# Altium footprint library Resistors.PcbLib: 10 footprints
Each footprint in its own frame and in the unit in brackets; x right, y up, seen from the top. Pads: shape width x height; smd on the part's side, far side on the other; paste and mask are expansions set on the pad; w line width, h text height; cw(c..) or ccw(c..) is an arc to the next point about the centre after c.
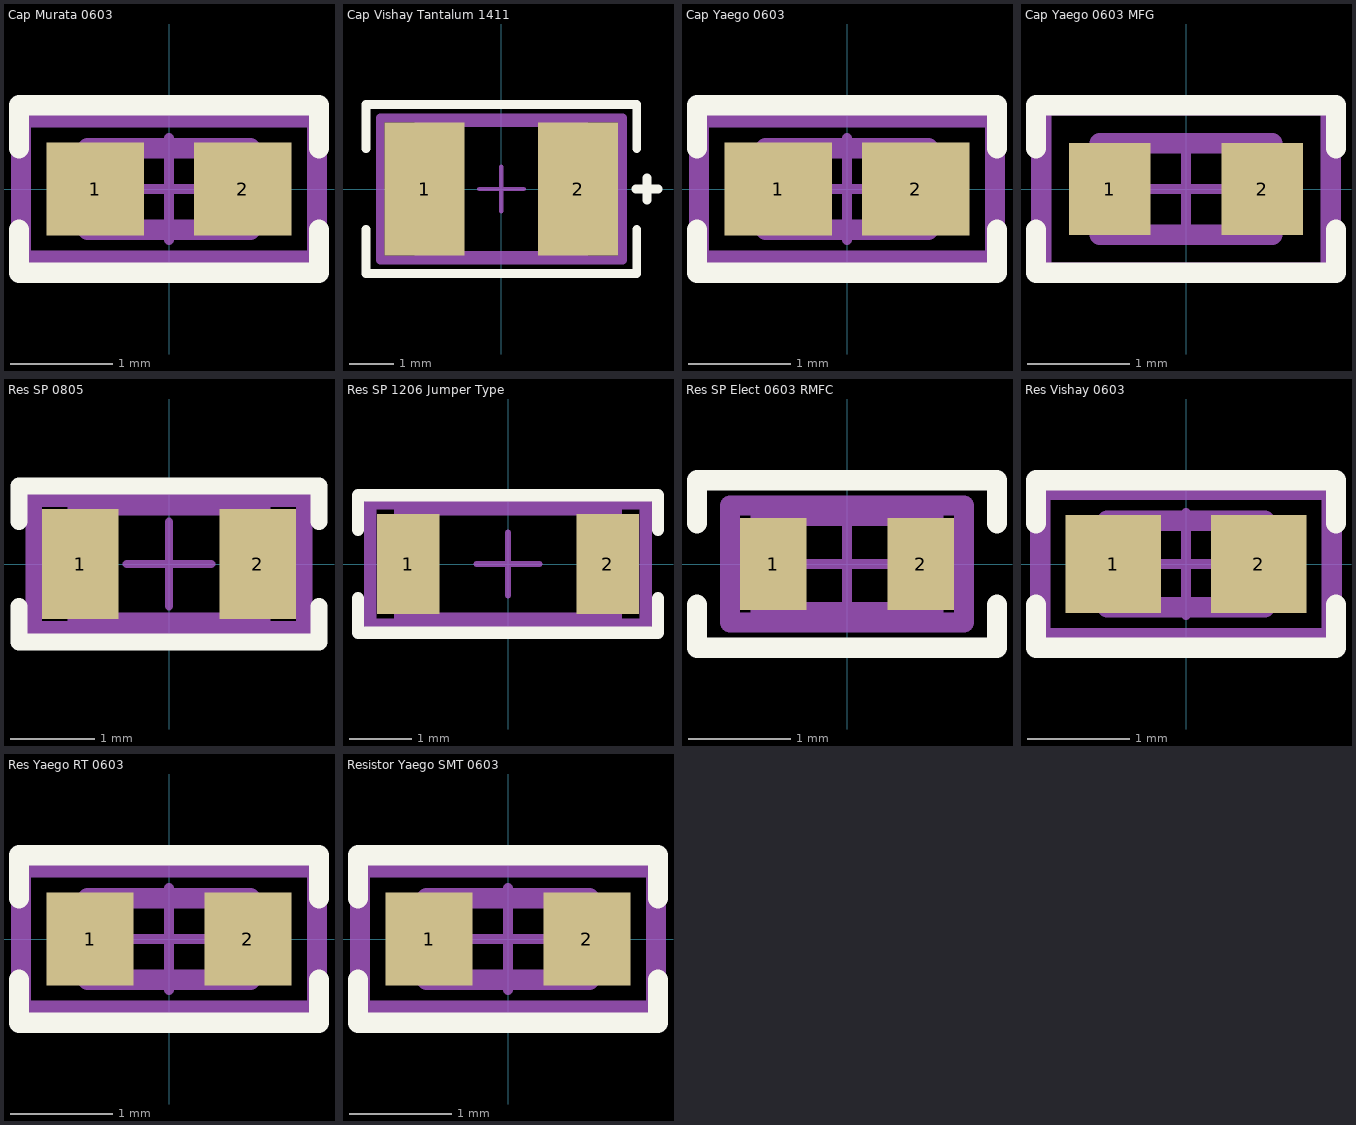
[diagram p0: the footprints below, top view; thin cyan lines are the x and y axes]

## Cap Murata 0603 [mm] "Capacitor Murata Electronics 0603"
pads (2):
  rect 0.959x0.912 smd paste+0 mask+0: 1(-0.727,0) 2(0.727,0)
Top Overlay:
  lines w0.2: -1.475,-0.4 -1.475,-0.825 1.475,-0.825 1.475,-0.4 ; -1.475,0.4 -1.475,0.825 1.475,0.825 1.475,0.4
Bottom Assembly:
  lines w0.2: -1.456,-0.706 -1.456,0.706 1.456,0.706 1.456,-0.706 -1.456,-0.706
Top Courtyard:
  lines w0.2: -1.456,-0.706 1.456,-0.706 1.456,0.706 -1.456,0.706 -1.456,-0.706
Board:
  lines w0.2: -0.8,-0.4 0.8,-0.4 0.8,0.4 -0.8,0.4 -0.8,-0.4
Top Component Center:
  lines w0.1: -0.5,0 0.5,0 ; 0,-0.5 0,0.5
3D body "Cap_Murata_GRM188R61E225KA12D_eec.STEP": height 0.25, standoff 0, extent -1.456,-0.706 1.456,0.706

## Cap Vishay Tantalum 1411 [mm] "10 µF Molded Tantalum Capacitors 16 V 1411 (3528 Metric) 2Ohm"
pads (2):
  rect 1.8x3 smd paste+0 mask+0: 1(-1.725,0) 2(1.725,0)
Top Overlay:
  lines w0.2: -3.048,-0.905 -3.048,-1.905 3.048,-1.905 3.048,-0.905 ; -3.048,0.905 -3.048,1.905 3.048,1.905 3.048,0.905 ; 3.025,0 3.525,0 ; 3.275,-0.25 3.275,0.25
Bottom Assembly:
  lines w0.2: -2.725,-1.6 2.725,-1.6 2.725,1.6 -2.725,1.6 -2.725,-1.6
Top Courtyard:
  lines w0.2: -2.725,-1.6 2.725,-1.6 2.725,1.6 -2.725,1.6 -2.725,-1.6
Top 3D Body:
  lines w0.2: -1.85,-1.5 1.85,-1.5 1.85,1.5 -1.85,1.5 -1.85,-1.5
Top Component Center:
  lines w0.1: -0.5,0 0.5,0 ; 0,-0.5 0,0.5
3D body "Cap_Vishay_293D106X9016B2TE3_eec.STEP": height 0.25, standoff 0, extent -2.725,-1.6 2.725,1.6

## Cap Yaego 0603 [mm] "Capacitor Yaego 0603"
pads (2):
  rect 1.058x0.912 smd paste+0 mask+0: 1(-0.677,0) 2(0.677,0)
Top Overlay:
  lines w0.2: -1.475,-0.4 -1.475,-0.825 1.475,-0.825 1.475,-0.4 ; -1.475,0.4 -1.475,0.825 1.475,0.825 1.475,0.4
Bottom Assembly:
  lines w0.2: -1.456,-0.706 1.456,-0.706 1.456,0.706 -1.456,0.706 -1.456,-0.706
Top Courtyard:
  lines w0.2: -1.456,-0.706 1.456,-0.706 1.456,0.706 -1.456,0.706 -1.456,-0.706
Board:
  lines w0.2: -0.8,-0.4 0.8,-0.4 0.8,0.4 -0.8,0.4 -0.8,-0.4
Top Component Center:
  lines w0.1: -0.5,0 0.5,0 -0.5,0 ; 0,-0.5 0,0.5 0,-0.5
3D body "Cap_Yageo_CC0603JRNPO9BN200_eec.STEP": height 0.25, standoff 0, extent -1.456,-0.706 1.456,0.706

## Cap Yaego 0603 MFG [mm] "Capacitor Yaego MFG Type 0603"
pads (2):
  rect 0.8x0.9 smd paste+0 mask+0: 1(-0.75,0) 2(0.75,0)
Top Overlay:
  lines w0.2: -1.475,-0.4 -1.475,-0.825 1.475,-0.825 1.475,-0.4 ; -1.475,0.4 -1.475,0.825 1.475,0.825 1.475,0.4
Top Assembly:
  lines w0.2: -1.425,-0.825 1.425,-0.825 1.425,0.825 -1.425,0.825 -1.425,-0.825 ; -0.85,-0.45 0.85,-0.45 0.85,0.45 -0.85,0.45 -0.85,-0.45
Top Courtyard:
  lines w0.2: -1.425,-0.825 1.425,-0.825 1.425,0.825 -1.425,0.825 -1.425,-0.825
Top Component Center:
  lines w0.1: -0.5,0 0.5,0 ; 0,-0.5 0,0.5
3D body "Cap_YAGEO_CC0603JRNPO9BN150_eec.STEP": height 0.25, standoff 0, extent -1.425,-0.825 1.425,0.825

## Res SP 0805 [mm] "Resistor Stackpole Electronics 0805 Jumper Type"
pads (2):
  rect 0.9x1.3 smd paste+0 mask+0: 1(-1.05,0) 2(1.05,0)
Top Overlay:
  lines w0.2: -1.775,-0.5 -1.775,-0.925 1.775,-0.925 1.775,-0.5 ; -1.775,0.5 -1.775,0.925 1.775,0.925 1.775,0.5
Bottom Assembly:
  lines w0.2: -1.6,-0.775 1.6,-0.775 1.6,0.775 -1.6,0.775 -1.6,-0.775
Top Courtyard:
  lines w0.2: -1.6,-0.775 1.6,-0.775 1.6,0.775 -1.6,0.775 -1.6,-0.775
Board:
  lines w0.2: -1.1,-0.675 1.1,-0.675 1.1,0.675 -1.1,0.675 -1.1,-0.675
Top Component Center:
  lines w0.1: -0.5,0 0.5,0 ; 0,-0.5 0,0.5
3D body "Res_Stackpole_Electronics_RMCF0805ZT0R00_eec.STEP": height 0.25, standoff 0, extent -1.6,-0.775 1.6,0.775

## Res SP 1206 Jumper Type [mm] "Resistor Stackpole Electronics 1206"
pads (2):
  rect 1x1.6 smd paste+0 mask+0: 1(-1.6,0) 2(1.6,0)
Top Overlay:
  lines w0.2: -2.4,-0.55 -2.4,-1.1 2.4,-1.1 2.4,-0.55 ; -2.4,0.55 -2.4,1.1 2.4,1.1 2.4,0.55
Bottom Assembly:
  lines w0.2: -2.2,-0.975 2.2,-0.975 2.2,0.975 -2.2,0.975 -2.2,-0.975
Top Courtyard:
  lines w0.2: -2.2,-0.975 2.2,-0.975 2.2,0.975 -2.2,0.975 -2.2,-0.975
Board:
  lines w0.2: -1.725,-0.875 1.725,-0.875 1.725,0.875 -1.725,0.875 -1.725,-0.875
Top Component Center:
  lines w0.1: -0.5,0 0.5,0 ; 0,-0.5 0,0.5
3D body "Res_Stackpole_Electronics_RMCF1206JT1K00_eec.STEP": height 0.25, standoff 0, extent -2.2,-0.975 2.2,0.975

## Res SP Elect 0603 RMFC [mm] "Resistor 0603 (1608 Metric) Automotive AEC-Q200 Thick Film"
pads (2):
  rect 0.65x0.9 smd paste+0 mask+0: 1(-0.725,0) 2(0.725,0)
Top Overlay:
  lines w0.2: -1.475,-0.4 -1.475,-0.825 1.475,-0.825 1.475,-0.4 ; -1.475,0.4 -1.475,0.825 1.475,0.825 1.475,0.4
Bottom Assembly:
  lines w0.2: -1.15,-0.575 -1.15,0.575 1.15,0.575 1.15,-0.575 -1.15,-0.575
Top Courtyard:
  lines w0.2: -1.15,-0.575 -1.15,0.575 1.15,0.575 1.15,-0.575 -1.15,-0.575
Board:
  lines w0.2: -0.85,-0.475 -0.85,0.475 0.85,0.475 0.85,-0.475 -0.85,-0.475
Top Component Center:
  lines w0.1: -0.5,0 0.5,0 ; 0,-0.5 0,0.5
3D body "Res_Stackpole_RMCF0603ZT0R00_eec.STEP": height 0.25, standoff 0, extent -1.15,-0.575 1.15,0.575

## Res Vishay 0603 [mm] "Resistor Vishay 0603"
pads (2):
  rect 0.935x0.962 smd paste+0 mask+0: 1(-0.715,0) 2(0.715,0)
Top Overlay:
  lines w0.2: -1.475,-0.4 -1.475,-0.825 1.475,-0.825 1.475,-0.4 ; -1.475,0.4 -1.475,0.825 1.475,0.825 1.475,0.4
Bottom Assembly:
  lines w0.2: -1.433,-0.731 1.433,-0.731 1.433,0.731 -1.433,0.731 -1.433,-0.731
Top Courtyard:
  lines w0.2: -1.433,-0.731 1.433,-0.731 1.433,0.731 -1.433,0.731 -1.433,-0.731
Board:
  lines w0.2: -0.775,-0.425 0.775,-0.425 0.775,0.425 -0.775,0.425 -0.775,-0.425
Top Component Center:
  lines w0.1: -0.5,0 0.5,0 ; 0,-0.5 0,0.5
3D body "Res_Vishay_CRCW06033M90FKEC_eec.STEP": height 0.25, standoff 0, extent -1.433,-0.731 1.433,0.731

## Res Yaego RT 0603 [mm] "Resistor Yaego RT Serie 0603"
pads (2):
  rect 0.859x0.912 smd paste+0 mask+0: 1(-0.777,0) 2(0.777,0)
Top Overlay:
  lines w0.2: -1.475,-0.4 -1.475,-0.825 1.475,-0.825 1.475,-0.4 ; -1.475,0.4 -1.475,0.825 1.475,0.825 1.475,0.4
Bottom Assembly:
  lines w0.2: -1.456,-0.706 1.456,-0.706 1.456,0.706 -1.456,0.706 -1.456,-0.706
Top Courtyard:
  lines w0.2: -1.456,-0.706 1.456,-0.706 1.456,0.706 -1.456,0.706 -1.456,-0.706
Board:
  lines w0.2: -0.8,-0.4 0.8,-0.4 0.8,0.4 -0.8,0.4 -0.8,-0.4
Top Component Center:
  lines w0.1: -0.5,0 0.5,0 ; 0,-0.5 0,0.5
3D body "Res_Yageo_RT0603CRE0724K3L_eec.STEP": height 0.25, standoff 0, extent -1.456,-0.706 1.456,0.706

## Resistor Yaego SMT 0603 [mm] "Resistor Yaego SMT 0603"
pads (2):
  rect 0.859x0.912 smd paste+0 mask+0: 1(-0.777,0) 2(0.777,0)
Top Overlay:
  lines w0.2: -1.475,-0.4 -1.475,-0.825 1.475,-0.825 1.475,-0.4 ; -1.475,0.4 -1.475,0.825 1.475,0.825 1.475,0.4
Bottom Assembly:
  lines w0.2: -1.456,-0.706 1.456,-0.706 1.456,0.706 -1.456,0.706 -1.456,-0.706
Top Courtyard:
  lines w0.2: -1.456,-0.706 1.456,-0.706 1.456,0.706 -1.456,0.706 -1.456,-0.706
Board:
  lines w0.2: -0.8,-0.4 0.8,-0.4 0.8,0.4 -0.8,0.4 -0.8,-0.4
Top Component Center:
  lines w0.1: -0.5,0 0.5,0 ; 0,-0.5 0,0.5
3D body "Res_Yageo_AC0603FR-07180RL_eec.STEP": height 0.25, standoff 0, extent -1.456,-0.706 1.456,0.706